# EAGLE library part TBA820M (library ST_Microelctronics_By_element14_Batch_1)
1.2W AUDIO AMPLIFIER
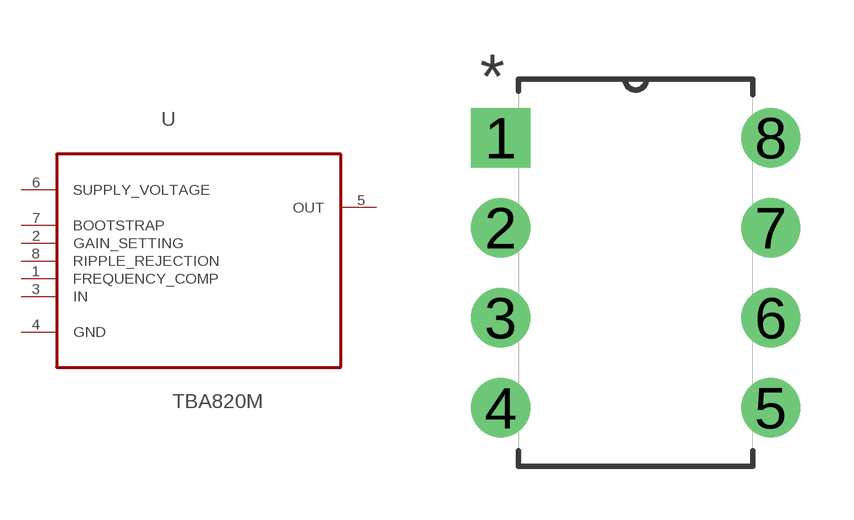
[diagram p386: symbol with the pads of DIP254P762X508-8; footprint DIP254P762X508-8]

Designator prefix U

## TBA820M (MPN: TBA820M; OC_FARNELL: 1094339; OC_NEWARK: 57P3432; PACKAGE: PDIP-8; SUPPLIER: STMICROELECTRONICS)  [DIP254P762X508-8]
1  FREQUENCY_COMP  pas
2  GAIN_SETTING  in
3  IN  in
4  GND  pas
5  OUT  out
6  SUPPLY_VOLTAGE  pwr
7  BOOTSTRAP  pas
8  RIPPLE_REJECTION  pas

## Footprint DIP254P762X508-8 (pad centres in mm)
drill 1.118 square: 1 -7.62,7.62
drill 1.118: 2 -7.62,5.08; 3 -7.62,2.54; 4 -7.62,0; 5 0,0; 6 0,2.54; 7 0,5.08; 8 0,7.62